# Altium schematic symbol library AD5722_32_52R.Schlib: 1 symbol
Pins are listed as number, name and electrical type; pins without a type are passive.

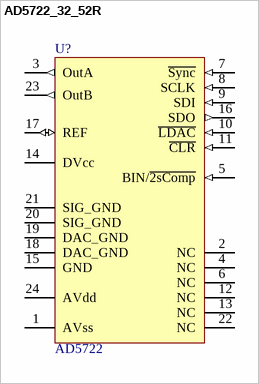
[diagram p0: symbol AD5722_32_52R]

## AD5722_32_52R
designator U?, comment AD5722
12/14/16bit dual bipolar serial DAC; Назначените: 2-х канальный ЦАП; Наименование: AD5722
footprint TSSOP24_AD
pins: 1 AVss (power) "interface power supply", 2 NC, 3 OutA (out), 4 NC, 5 BIN/~{2sComp} (in), 6 NC, 7 ~{Sync} (in), 8 SCLK (in), 9 SDI (in), 10 ~{LDAC} (in), 11 ~{CLR} (in), 12 NC, 13 NC, 14 DVcc (power) "Power for ADC core", 15 GND (power) "Negative power supply for analog", 16 SDO (out), 17 REF (io), 18 DAC_GND (power) "Positive power supply for analog", 19 DAC_GND (power) "Positive power supply for analog", 20 SIG_GND (power) "Positive power supply for analog", 21 SIG_GND (power) "Positive power supply for analog", 22 NC, 23 OutB (out), 24 AVdd (power) "interface power supply"